# Altium schematic symbol library HC-06.SchLib: 1 symbol
Pins are listed as number, name and electrical type; pins without a type are passive.

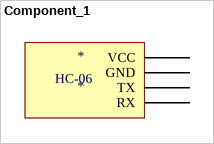
[diagram p0: symbol Component_1]

## Component_1
designator *
pins: 1 VCC, 2 GND, 3 TX, 4 RX
text: HC-06